# EAGLE library part CON06L (library con-harting)
CONNECTOR
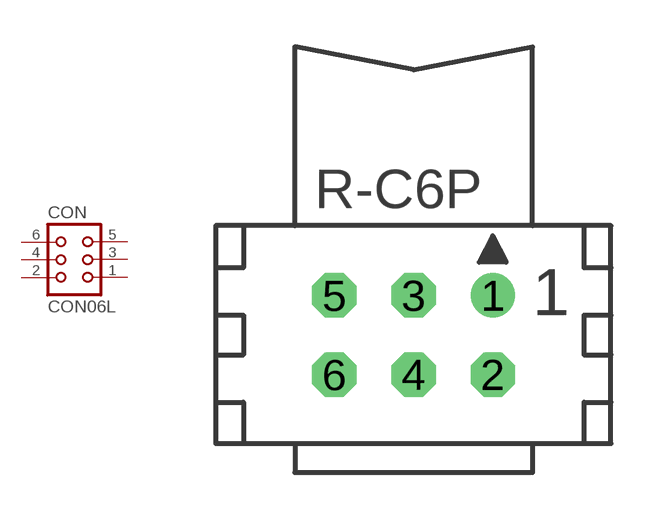
[diagram p10: symbol with the pads of CON06L; footprint CON06L]

Designator prefix CON

## CON06L (OC_FARNELL: unknown; OC_NEWARK: unknown)  [CON06L]
1  1  pas
2  2  pas
3  3  pas
4  4  pas
5  5  pas
6  6  pas

## Footprint CON06L (pad centres in mm)
CONNECTOR
drill 0.914: 1 2.54,1.27
drill 0.914 octagon: 2 2.54,-1.27; 3 0,1.27; 4 0,-1.27; 5 -2.54,1.27; 6 -2.54,-1.27